# Altium schematic symbol library Microprocessors.SchLib: 19 symbols
Pins are listed as number, name and electrical type; pins without a type are passive.

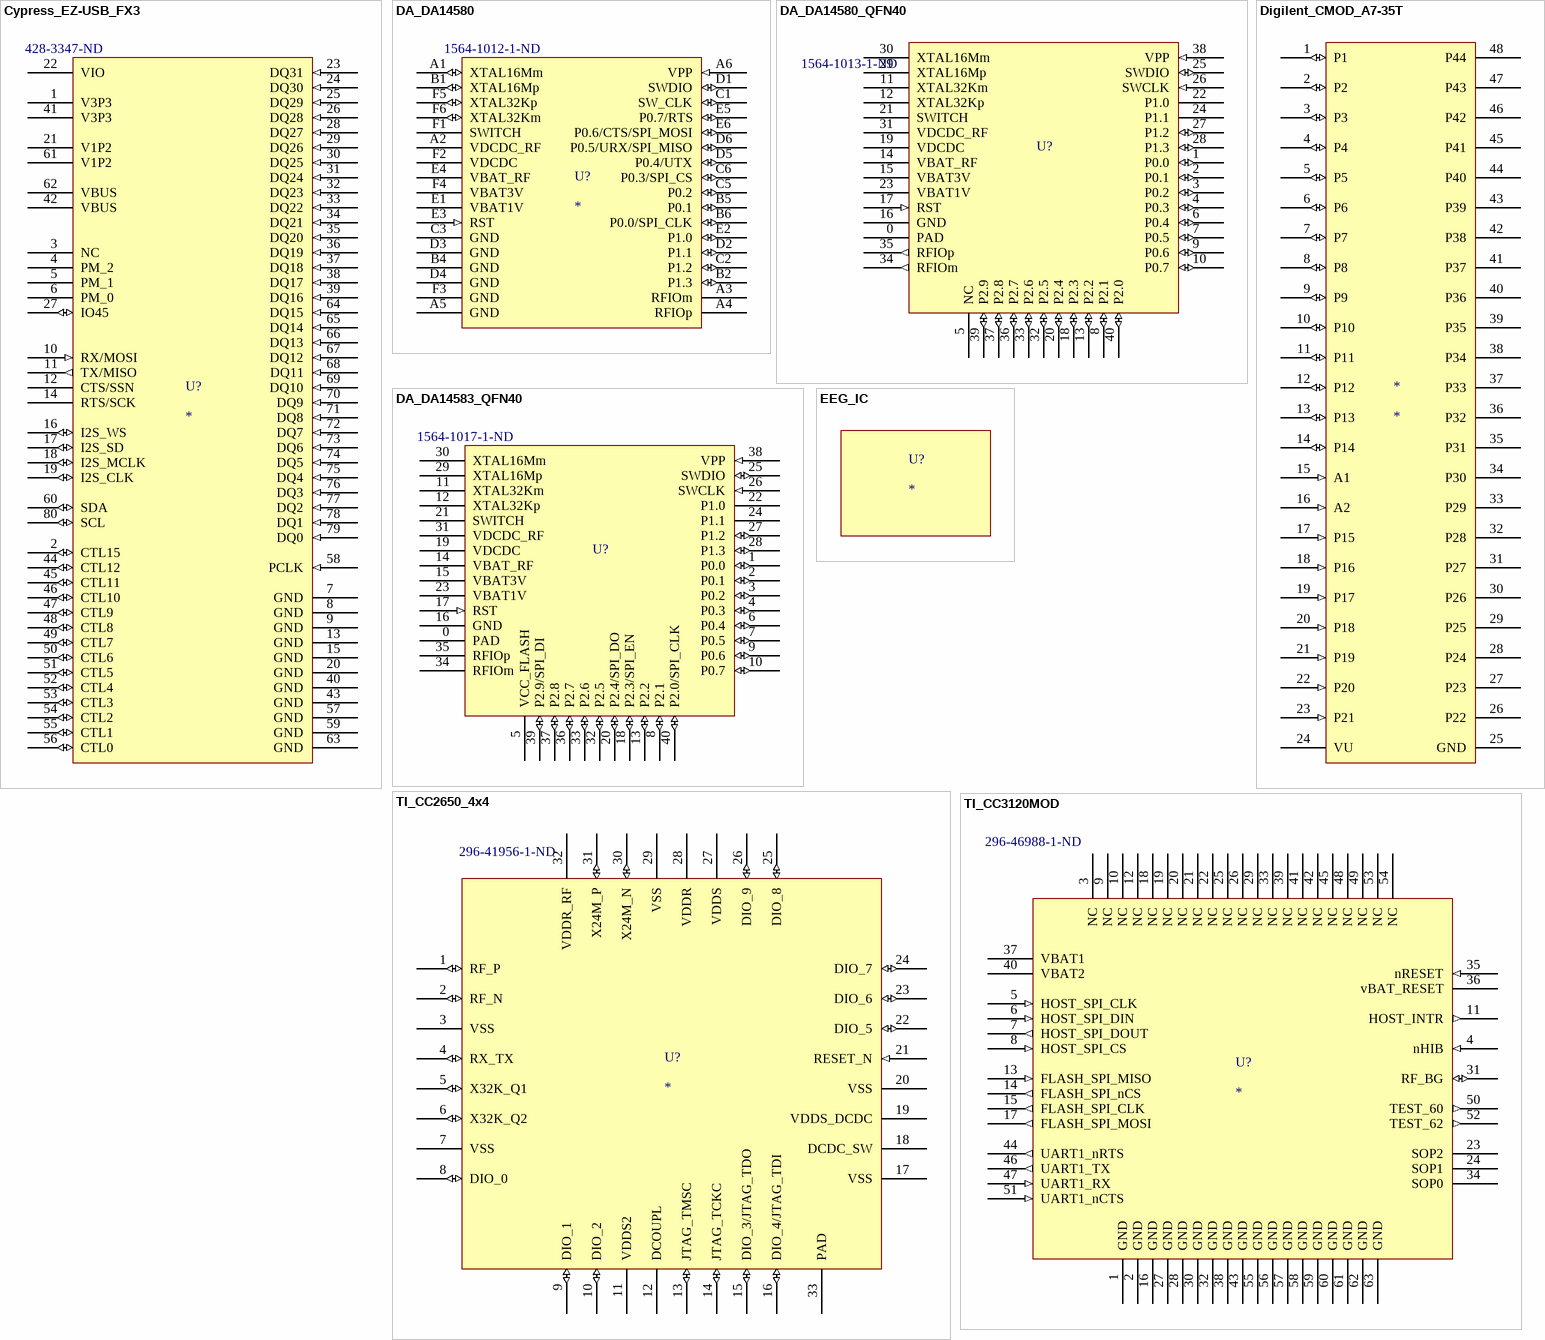
[diagram p0: symbols Cypress_EZ-USB_FX3 to TI_CC3120MOD]

## Cypress_EZ-USB_FX3
designator U?  Supplier Part Number 1: 428-3347-ND
USB3.0 Controller; Supplier 1: Digi-Key
footprint Cypress_EZ-USB_FX3
pins: 1 V3P3 (power), 2 CTL15 (io), 3 NC, 4 PM_2, 5 PM_1, 6 PM_0, 7 GND (power), 8 GND (power), 9 GND (power), 10 RX/MOSI (in), 11 TX/MISO (out), 12 CTS/SSN, 13 GND (power), 14 RTS/SCK, 15 GND (power), 16 I2S_WS (io), 17 I2S_SD (io), 18 I2S_MCLK (io), 19 I2S_CLK (io), 20 GND (power), 21 V1P2 (power), 22 VIO (power), 23 DQ31 (in), 24 DQ30 (in), 25 DQ29 (in), 26 DQ28 (in), 27 IO45 (io), 28 DQ27 (in), 29 DQ26 (in), 30 DQ25 (in), 31 DQ24 (in), 32 DQ23 (in), 33 DQ22 (in), 34 DQ21 (in), 35 DQ20 (in), 36 DQ19 (in), 37 DQ18 (in), 38 DQ17 (in), 39 DQ16 (in), 40 GND (power), 41 V3P3 (power), 42 VBUS (power), 43 GND (power), 44 CTL12 (io), 45 CTL11 (io), 46 CTL10 (io), 47 CTL9 (io), 48 CTL8 (io), 49 CTL7 (io), 50 CTL6 (io), 51 CTL5 (io), 52 CTL4 (io), 53 CTL3 (io), 54 CTL2 (io), 55 CTL1 (io), 56 CTL0 (io), 57 GND (power), 58 PCLK (in), 59 GND (power), 60 SDA (io), 61 V1P2 (power), 62 VBUS (power), 63 GND (power), 64 DQ15 (in), 65 DQ14 (in), 66 DQ13 (in), 67 DQ12 (in), 68 DQ11 (in), 69 DQ10 (in), 70 DQ9 (in), 71 DQ8 (in), 72 DQ7 (in), 73 DQ6 (in), 74 DQ5 (in), 75 DQ4 (in), 76 DQ3 (in), 77 DQ2 (in), 78 DQ1 (in), 79 DQ0 (in), 80 SCL (io)

## DA_DA14580
designator U?  Supplier Part Number 1: 1564-1012-1-ND
DA14580_BLE_WLCSP; Supplier 1: Digi-Key
footprint DA_DA14580_WLCSP34 (BGA, 34-Leads, Body 2.44x2.44mmx0.55mm, Pitch 0.40mm)
pins: A1 XTAL16Mm (io), A2 VDCDC_RF (power), A3 RFIOm, A4 RFIOp, A5 GND (power), A6 VPP (in), B1 XTAL16Mp (io), B2 P1.3 (io), B4 GND (power), B5 P0.1 (io), B6 P0.0/SPI_CLK (io), C1 SW_CLK (io), C2 P1.2 (io), C3 GND (power), C5 P0.2 (io), C6 P0.3/SPI_CS (io), D1 SWDIO (io), D2 P1.1 (io), D3 GND (power), D4 GND (power), D5 P0.4/UTX (io), D6 P0.5/URX/SPI_MISO (io), E1 VBAT1V (power), E2 P1.0 (io), E3 RST (in), E4 VBAT_RF (power), E5 P0.7/RTS (io), E6 P0.6/CTS/SPI_MOSI (io), F1 SWITCH (power), F2 VDCDC (power), F3 GND (power), F4 VBAT3V (power), F5 XTAL32Kp (io), F6 XTAL32Km (io)

## DA_DA14580_QFN40
designator U?  Supplier Part Number 1: 1564-1013-1-ND
DA14580_BLE_QFN40; Supplier 1: Digi-Key
footprint DA_DA14580_QFN40 (QFN, 40-Leads, Body 5.00x5.00mm, Pitch 0.40mm, Thermal Pad 3.65x3.65mm, IPC High Density)
pins: 0 PAD (power), 1 P0.0 (io), 2 P0.1 (io), 3 P0.2 (io), 4 P0.3 (io), 5 NC, 6 P0.4 (io), 7 P0.5 (io), 8 P2.1 (io), 9 P0.6 (io), 10 P0.7 (io), 11 XTAL32Km, 12 XTAL32Kp, 13 P2.2 (io), 14 VBAT_RF (power), 15 VBAT3V (power), 16 GND (power), 17 RST (in), 18 P2.3 (io), 19 VDCDC (power), 20 P2.4 (io), 21 SWITCH (power), 22 P1.0, 23 VBAT1V (power), 24 P1.1, 25 SWDIO (io), 26 SWCLK (in), 27 P1.2 (io), 28 P1.3 (io), 29 XTAL16Mp, 30 XTAL16Mm, 31 VDCDC_RF (power), 32 P2.5 (io), 33 P2.6 (io), 34 RFIOm (out), 35 RFIOp (out), 36 P2.7 (io), 37 P2.8 (io), 38 VPP (in), 39 P2.9 (io), 40 P2.0 (io)

## DA_DA14583_QFN40
designator U?  Supplier Part Number 1: 1564-1017-1-ND
DA14583_BLE_QFN40; Supplier 1: Digi-Key
footprint DA_DA14580_QFN40 (QFN, 40-Leads, Body 5.00x5.00mm, Pitch 0.40mm, Thermal Pad 3.65x3.65mm, IPC High Density)
pins: 0 PAD (power), 1 P0.0 (io), 2 P0.1 (io), 3 P0.2 (io), 4 P0.3 (io), 5 VCC_FLASH (power), 6 P0.4 (io), 7 P0.5 (io), 8 P2.1 (io), 9 P0.6 (io), 10 P0.7 (io), 11 XTAL32Km, 12 XTAL32Kp, 13 P2.2 (io), 14 VBAT_RF (power), 15 VBAT3V (power), 16 GND (power), 17 RST (in), 18 P2.3/SPI_EN (io), 19 VDCDC (power), 20 P2.4/SPI_DO (io), 21 SWITCH (power), 22 P1.0, 23 VBAT1V (power), 24 P1.1, 25 SWDIO (io), 26 SWCLK (in), 27 P1.2 (io), 28 P1.3 (io), 29 XTAL16Mp, 30 XTAL16Mm, 31 VDCDC_RF (power), 32 P2.5 (io), 33 P2.6 (io), 34 RFIOm, 35 RFIOp, 36 P2.7 (io), 37 P2.8 (io), 38 VPP (in), 39 P2.9/SPI_DI (io), 40 P2.0/SPI_CLK (io)

## Digilent_CMOD_A7-35T
designator *
Artix 35T FPGA DIP
pins: 1 P1 (io), 2 P2 (io), 3 P3 (io), 4 P4 (io), 5 P5 (io), 6 P6 (io), 7 P7 (io), 8 P8 (io), 9 P9 (io), 10 P10 (io), 11 P11 (io), 12 P12 (io), 13 P13 (io), 14 P14 (io), 15 A1 (in), 16 A2 (in), 17 P15 (in), 18 P16 (in), 19 P17 (in), 20 P18 (in), 21 P19 (in), 22 P20 (in), 23 P21 (in), 24 VU (power), 25 GND (power), 26 P22 (power), 27 P23 (power), 28 P24 (power), 29 P25 (power), 30 P26 (power), 31 P27 (power), 32 P28 (power), 33 P29 (power), 34 P30 (power), 35 P31 (power), 36 P32 (power), 37 P33 (power), 38 P34 (power), 39 P35 (power), 40 P36 (power), 41 P37 (power), 42 P38 (power), 43 P39 (power), 44 P40 (power), 45 P41 (power), 46 P42 (power), 47 P43 (power), 48 P44 (power)

## EEG_IC
designator U?
footprint EEG_AD_LFCSP-64 (QFN, 64-Leads, Body 9.00x9.00mm, Pitch 0.50mm, Thermal Pad 7.10x7.10mm, IPC High Density)

## TI_CC2650_4x4
designator U?  Supplier Part Number 1: 296-41956-1-ND
TI_CC2650_4x4; Supplier 1: Digi-Key
footprint TI_CC2650_PVQFN32 (QFN, 32-Leads, Body 4.00x4.00mm, Pitch 0.40mm, Thermal Pad 2.80x2.80mm, IPC High Density)
pins: 1 RF_P (io), 2 RF_N (io), 3 VSS (power), 4 RX_TX (io), 5 X32K_Q1 (io), 6 X32K_Q2 (io), 7 VSS (power), 8 DIO_0 (io), 9 DIO_1 (io), 10 DIO_2 (io), 11 VDDS2 (power), 12 DCOUPL (power), 13 JTAG_TMSC (io), 14 JTAG_TCKC (io), 15 DIO_3/JTAG_TDO (io), 16 DIO_4/JTAG_TDI (io), 17 VSS (power), 18 DCDC_SW (power), 19 VDDS_DCDC (power), 20 VSS (power), 21 RESET_N (in), 22 DIO_5 (io), 23 DIO_6 (io), 24 DIO_7 (io), 25 DIO_8 (io), 26 DIO_9 (io), 27 VDDS (power), 28 VDDR (power), 29 VSS (power), 30 X24M_N (io), 31 X24M_P (io), 32 VDDR_RF (power), 33 PAD (power)

## TI_CC3120MOD
designator U?  Supplier Part Number 1: 296-46988-1-ND
CC3120MOD WIFI; Supplier 1: Digi-Key
footprint TI_CC3120MOD (PQFN, 54-Leads, Body 17.50x20.50mm, Pitch 1.27mm, IPC Medium Density)
pins: 1 GND (power), 2 GND (power), 3 NC, 4 nHIB (in), 5 HOST_SPI_CLK (in), 6 HOST_SPI_DIN (in), 7 HOST_SPI_DOUT (out), 8 HOST_SPI_CS (in), 9 NC, 10 NC, 11 HOST_INTR (out), 12 NC, 13 FLASH_SPI_MISO (in), 14 FLASH_SPI_nCS (out), 15 FLASH_SPI_CLK (out), 16 GND (power), 17 FLASH_SPI_MOSI (out), 18 NC, 19 NC, 20 NC, 21 NC, 22 NC, 23 SOP2, 24 SOP1, 25 NC, 26 NC, 27 GND (power), 28 GND (power), 29 NC, 30 GND (power), 31 RF_BG (io), 32 GND (power), 33 NC, 34 SOP0, 35 nRESET (in), 36 vBAT_RESET, 37 VBAT1 (power), 38 GND (power), 39 NC, 40 VBAT2 (power), 41 NC, 42 NC, 43 GND (power), 44 UART1_nRTS (out), 45 NC, 46 UART1_TX (out), 47 UART1_RX (in), 48 NC, 49 NC, 50 TEST_60 (out), 51 UART1_nCTS (in), 52 TEST_62 (out), 53 NC, 54 NC, 55 GND (power), 56 GND (power), 57 GND (power), 58 GND (power), 59 GND (power), 60 GND (power), 61 GND (power), 62 GND (power), 63 GND (power)

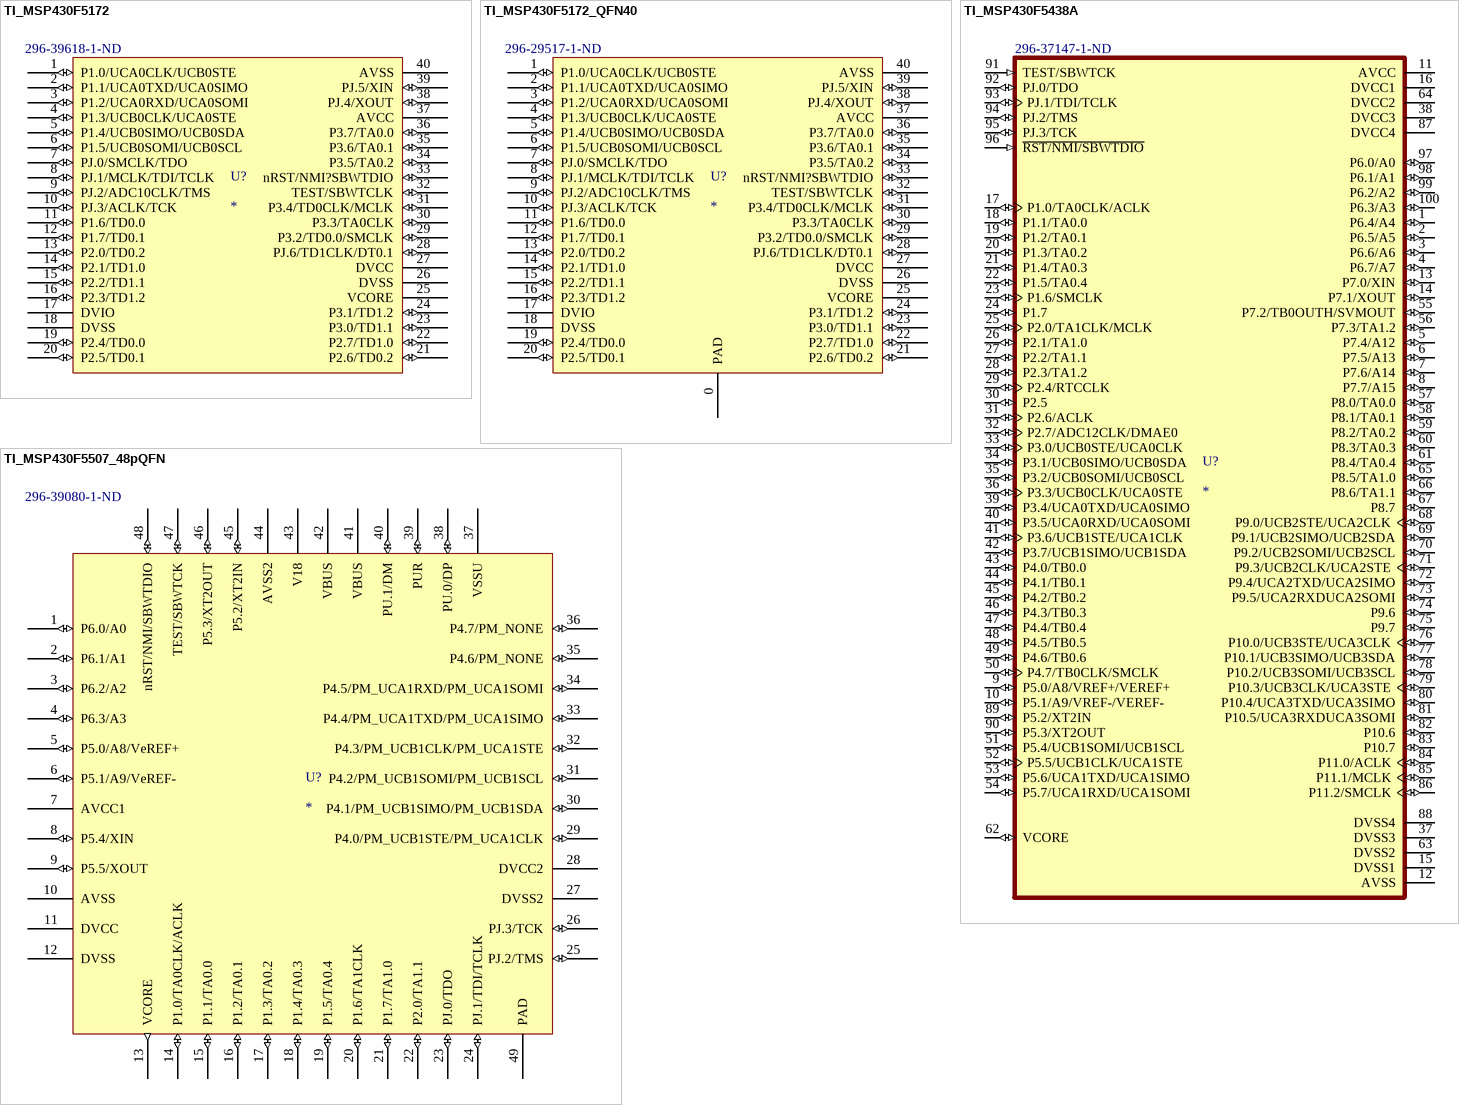
[diagram p1: symbols TI_MSP430F5172 to TI_MSP430F5507_48pQFN]

## TI_MSP430F5172
designator U?  Supplier Part Number 1: 296-39618-1-ND
TI_MSP430F5172_BGA; Supplier 1: Digi-Key
footprint TI_MSP430F5172_YFF40 (BGA, 42-Leads, Body 2.76x3.06mmx0.63mm, Pitch 0.40mm); pin to pad 1>B5 2>B6 3>c5 4>c6 5>d5 6>d6 7>e6 8>e5 9>f6 10>e4 11>g6 12>f5 13>f4 14>g5 15>g4 16>e3 17>g3 18>g2 19>f3 20>g1 21>f2 22>e2 23>f1 24>e1 25>d1 26>c1 27>b1 28>c2 29>b2 30>a1 31>a2 32>d2 33>b3 34>a3 35>a4 36>b4 37>c3 38>a5 39>a6 40>c4
pins: 1 P1.0/UCA0CLK/UCB0STE (io), 2 P1.1/UCA0TXD/UCA0SIMO (io), 3 P1.2/UCA0RXD/UCA0SOMI (io), 4 P1.3/UCB0CLK/UCA0STE (io), 5 P1.4/UCB0SIMO/UCB0SDA (io), 6 P1.5/UCB0SOMI/UCB0SCL (io), 7 PJ.0/SMCLK/TDO (io), 8 PJ.1/MCLK/TDI/TCLK (io), 9 PJ.2/ADC10CLK/TMS (io), 10 PJ.3/ACLK/TCK (io), 11 P1.6/TD0.0 (io), 12 P1.7/TD0.1 (io), 13 P2.0/TD0.2 (io), 14 P2.1/TD1.0 (io), 15 P2.2/TD1.1 (io), 16 P2.3/TD1.2 (io), 17 DVIO (power), 18 DVSS (power), 19 P2.4/TD0.0 (io), 20 P2.5/TD0.1 (io), 21 P2.6/TD0.2 (io), 22 P2.7/TD1.0 (io), 23 P3.0/TD1.1 (io), 24 P3.1/TD1.2 (io), 25 VCORE, 26 DVSS (power), 27 DVCC (power), 28 PJ.6/TD1CLK/DT0.1 (io), 29 P3.2/TD0.0/SMCLK (io), 30 P3.3/TA0CLK (io), 31 P3.4/TD0CLK/MCLK (io), 32 TEST/SBWTCLK (io), 33 nRST/NMI?SBWTDIO (io), 34 P3.5/TA0.2 (io), 35 P3.6/TA0.1 (io), 36 P3.7/TA0.0 (io), 37 AVCC (power), 38 PJ.4/XOUT (io), 39 PJ.5/XIN (io), 40 AVSS (power)

## TI_MSP430F5172_QFN40
designator U?  Supplier Part Number 1: 296-29517-1-ND
TI_MSP430F5172_QFN40; Supplier 1: Digi-Key
footprint TI_MSP430F5172_QFN40 (QFN, 40-Leads, Body 5.00x5.00mm, Pitch 0.40mm, Thermal Pad 3.65x3.65mm, IPC High Density)
footprint TI_MSP430F5172_QFN40 (QFN, 40-Leads, Body 5.00x5.00mm, Pitch 0.40mm, Thermal Pad 3.65x3.65mm, IPC High Density)
pins: 0 PAD (power), 1 P1.0/UCA0CLK/UCB0STE (io), 2 P1.1/UCA0TXD/UCA0SIMO (io), 3 P1.2/UCA0RXD/UCA0SOMI (io), 4 P1.3/UCB0CLK/UCA0STE (io), 5 P1.4/UCB0SIMO/UCB0SDA (io), 6 P1.5/UCB0SOMI/UCB0SCL (io), 7 PJ.0/SMCLK/TDO (io), 8 PJ.1/MCLK/TDI/TCLK (io), 9 PJ.2/ADC10CLK/TMS (io), 10 PJ.3/ACLK/TCK (io), 11 P1.6/TD0.0 (io), 12 P1.7/TD0.1 (io), 13 P2.0/TD0.2 (io), 14 P2.1/TD1.0 (io), 15 P2.2/TD1.1 (io), 16 P2.3/TD1.2 (io), 17 DVIO (power), 18 DVSS (power), 19 P2.4/TD0.0 (io), 20 P2.5/TD0.1 (io), 21 P2.6/TD0.2 (io), 22 P2.7/TD1.0 (io), 23 P3.0/TD1.1 (io), 24 P3.1/TD1.2 (io), 25 VCORE, 26 DVSS (power), 27 DVCC (power), 28 PJ.6/TD1CLK/DT0.1 (io), 29 P3.2/TD0.0/SMCLK (io), 30 P3.3/TA0CLK (io), 31 P3.4/TD0CLK/MCLK (io), 32 TEST/SBWTCLK (io), 33 nRST/NMI?SBWTDIO (io), 34 P3.5/TA0.2 (io), 35 P3.6/TA0.1 (io), 36 P3.7/TA0.0 (io), 37 AVCC (power), 38 PJ.4/XOUT (io), 39 PJ.5/XIN (io), 40 AVSS (power)

## TI_MSP430F5438A
designator U?  Supplier Part Number 1: 296-37147-1-ND
MSP430F5438_LQFP100; MF: Texas Instruments; MP: MSP430F5438AIPZR; DigiKey-Purchase-URL: https://snapeda.com/shop?store=DigiKey&id=49186; Package: LQFP-100 Texas Instruments; Digi-Key_Part_Number: 296-37147-1-ND; Arrow_Electronics-Purchase-URL: https://snapeda.com/shop?store=Arrow+Electronics&id=49186; Texas_Instruments-Purchase-URL: https://snapeda.com/shop?store=Texas+Instruments&id=49186; Mouser-Purchase-URL: https://snapeda.com/shop?store=Mouser&id=49186; SnapEDA_Link: https://www.snapeda.com/parts/MSP430F5438AIPZR/Texas%20Instruments/view-part/49186/?ref=snap; Value: *; Supplier 1: Digi-Key
footprint TI_MSP430F5438_LQFP100 (TSQFP, 100-Leads, Body 14.00x14.00mm, Pitch 0.50mm, IPC High Density)
pins: 1 P6.4/A4 (io), 2 P6.5/A5 (io), 3 P6.6/A6 (io), 4 P6.7/A7 (io), 5 P7.4/A12 (io), 6 P7.5/A13 (io), 7 P7.6/A14 (io), 8 P7.7/A15 (io), 9 P5.0/A8/VREF+/VEREF+ (io), 10 P5.1/A9/VREF-/VEREF- (io), 11 AVCC (power), 12 AVSS (power), 13 P7.0/XIN (io), 14 P7.1/XOUT (io), 15 DVSS1 (power), 16 DVCC1 (power), 17 P1.0/TA0CLK/ACLK (io), 18 P1.1/TA0.0 (io), 19 P1.2/TA0.1 (io), 20 P1.3/TA0.2 (io), 21 P1.4/TA0.3 (io), 22 P1.5/TA0.4 (io), 23 P1.6/SMCLK (io), 24 P1.7 (io), 25 P2.0/TA1CLK/MCLK (io), 26 P2.1/TA1.0 (io), 27 P2.2/TA1.1 (io), 28 P2.3/TA1.2 (io), 29 P2.4/RTCCLK (io), 30 P2.5 (io), 31 P2.6/ACLK (io), 32 P2.7/ADC12CLK/DMAE0 (io), 33 P3.0/UCB0STE/UCA0CLK (io), 34 P3.1/UCB0SIMO/UCB0SDA (io), 35 P3.2/UCB0SOMI/UCB0SCL (io), 36 P3.3/UCB0CLK/UCA0STE (io), 37 DVSS3 (power), 38 DVCC3 (power), 39 P3.4/UCA0TXD/UCA0SIMO (io), 40 P3.5/UCA0RXD/UCA0SOMI (io), 41 P3.6/UCB1STE/UCA1CLK (io), 42 P3.7/UCB1SIMO/UCB1SDA (io), 43 P4.0/TB0.0 (io), 44 P4.1/TB0.1 (io), 45 P4.2/TB0.2 (io), 46 P4.3/TB0.3 (io), 47 P4.4/TB0.4 (io), 48 P4.5/TB0.5 (io), 49 P4.6/TB0.6 (io), 50 P4.7/TB0CLK/SMCLK (io), 51 P5.4/UCB1SOMI/UCB1SCL (io), 52 P5.5/UCB1CLK/UCA1STE (io), 53 P5.6/UCA1TXD/UCA1SIMO (io), 54 P5.7/UCA1RXD/UCA1SOMI (io), 55 P7.2/TB0OUTH/SVMOUT (io), 56 P7.3/TA1.2 (io), 57 P8.0/TA0.0 (io), 58 P8.1/TA0.1 (io), 59 P8.2/TA0.2 (io), 60 P8.3/TA0.3 (io), 61 P8.4/TA0.4 (io), 62 VCORE (io), 63 DVSS2 (power), 64 DVCC2 (power), 65 P8.5/TA1.0 (io), 66 P8.6/TA1.1 (io), 67 P8.7 (io), 68 P9.0/UCB2STE/UCA2CLK (io), 69 P9.1/UCB2SIMO/UCB2SDA (io), 70 P9.2/UCB2SOMI/UCB2SCL (io), 71 P9.3/UCB2CLK/UCA2STE (io), 72 P9.4/UCA2TXD/UCA2SIMO (io), 73 P9.5/UCA2RXDUCA2SOMI (io), 74 P9.6 (io), 75 P9.7 (io), 76 P10.0/UCB3STE/UCA3CLK (io), 77 P10.1/UCB3SIMO/UCB3SDA (io), 78 P10.2/UCB3SOMI/UCB3SCL (io), 79 P10.3/UCB3CLK/UCA3STE (io), 80 P10.4/UCA3TXD/UCA3SIMO (io), 81 P10.5/UCA3RXDUCA3SOMI (io), 82 P10.6 (io), 83 P10.7 (io), 84 P11.0/ACLK (io), 85 P11.1/MCLK (io), 86 P11.2/SMCLK (io), 87 DVCC4 (power), 88 DVSS4 (power), 89 P5.2/XT2IN (io), 90 P5.3/XT2OUT (io), 91 TEST/SBWTCK (in), 92 PJ.0/TDO (io), 93 PJ.1/TDI/TCLK (io), 94 PJ.2/TMS (io), 95 PJ.3/TCK (io), 96 ~{RST/NMI/SBWTDIO} (in), 97 P6.0/A0 (io), 98 P6.1/A1 (io), 99 P6.2/A2 (io), 100 P6.3/A3 (io)

## TI_MSP430F5507_48pQFN
designator U?  Supplier Part Number 1: 296-39080-1-ND
TI_MSP430F5507_QFN; Supplier 1: Digi-Key
footprint TI_MSP430F5507_QFN48 (QFN, 48-Leads, Body 7.00x7.00mm, Pitch 0.50mm, Thermal Pad 5.15x5.15mm, IPC High Density)
pins: 1 P6.0/A0 (io), 2 P6.1/A1 (io), 3 P6.2/A2 (io), 4 P6.3/A3 (io), 5 P5.0/A8/VeREF+ (io), 6 P5.1/A9/VeREF- (io), 7 AVCC1 (power), 8 P5.4/XIN (io), 9 P5.5/XOUT (io), 10 AVSS (power), 11 DVCC (power), 12 DVSS (power), 13 VCORE (out), 14 P1.0/TA0CLK/ACLK (io), 15 P1.1/TA0.0 (io), 16 P1.2/TA0.1 (io), 17 P1.3/TA0.2 (io), 18 P1.4/TA0.3 (io), 19 P1.5/TA0.4 (io), 20 P1.6/TA1CLK (io), 21 P1.7/TA1.0 (io), 22 P2.0/TA1.1 (io), 23 PJ.0/TDO (io), 24 PJ.1/TDI/TCLK (io), 25 PJ.2/TMS (io), 26 PJ.3/TCK (io), 27 DVSS2 (power), 28 DVCC2 (power), 29 P4.0/PM_UCB1STE/PM_UCA1CLK (io), 30 P4.1/PM_UCB1SIMO/PM_UCB1SDA (io), 31 P4.2/PM_UCB1SOMI/PM_UCB1SCL (io), 32 P4.3/PM_UCB1CLK/PM_UCA1STE (io), 33 P4.4/PM_UCA1TXD/PM_UCA1SIMO (io), 34 P4.5/PM_UCA1RXD/PM_UCA1SOMI (io), 35 P4.6/PM_NONE (io), 36 P4.7/PM_NONE (io), 37 VSSU (power), 38 PU.0/DP (io), 39 PUR (io), 40 PU.1/DM (io), 41 VBUS (power), 42 VBUS (power), 43 V18 (power), 44 AVSS2 (power), 45 P5.2/XT2IN (io), 46 P5.3/XT2OUT (io), 47 TEST/SBWTCK (io), 48 nRST/NMI/SBWTDIO (io), 49 PAD (power)

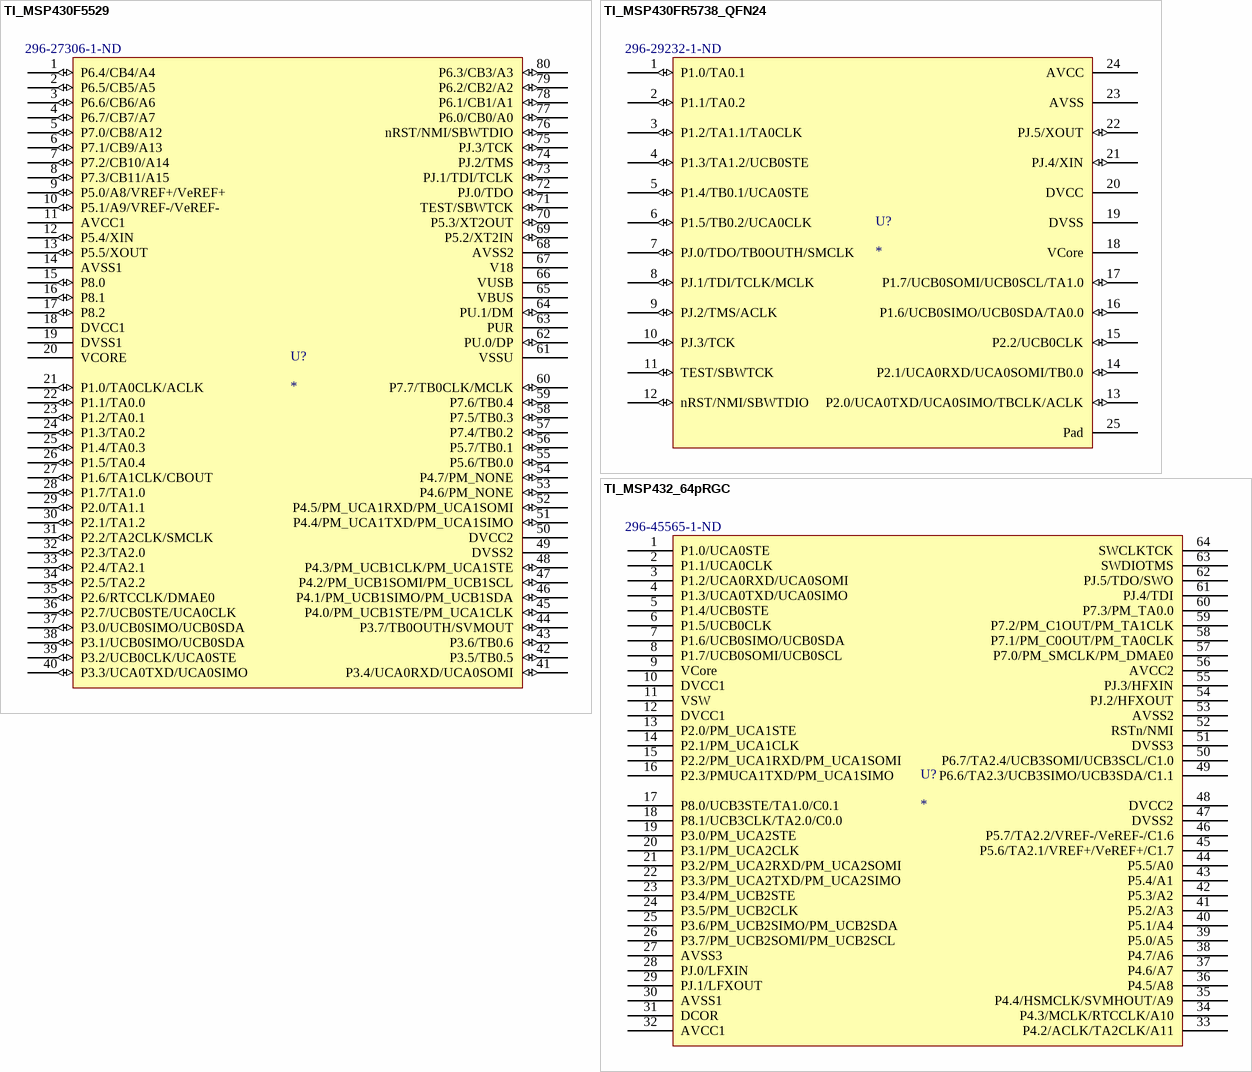
[diagram p2: symbols TI_MSP430F5529 to TI_MSP432_64pRGC]

## TI_MSP430F5529
designator U?  Supplier Part Number 1: 296-27306-1-ND
TI_MSP430F5529_PQFP80; Supplier 1: Digi-Key
footprint TI_MSP430F5529_LQFP-80 (TSQFP, 80-Leads, Body 12.00x12.00mm, Pitch 0.50mm, IPC High Density)
pins: 1 P6.4/CB4/A4 (io), 2 P6.5/CB5/A5 (io), 3 P6.6/CB6/A6 (io), 4 P6.7/CB7/A7 (io), 5 P7.0/CB8/A12 (io), 6 P7.1/CB9/A13 (io), 7 P7.2/CB10/A14 (io), 8 P7.3/CB11/A15 (io), 9 P5.0/A8/VREF+/VeREF+ (io), 10 P5.1/A9/VREF-/VeREF- (io), 11 AVCC1 (power), 12 P5.4/XIN (io), 13 P5.5/XOUT (io), 14 AVSS1 (power), 15 P8.0 (io), 16 P8.1 (io), 17 P8.2 (io), 18 DVCC1 (power), 19 DVSS1 (power), 20 VCORE, 21 P1.0/TA0CLK/ACLK (io), 22 P1.1/TA0.0 (io), 23 P1.2/TA0.1 (io), 24 P1.3/TA0.2 (io), 25 P1.4/TA0.3 (io), 26 P1.5/TA0.4 (io), 27 P1.6/TA1CLK/CBOUT (io), 28 P1.7/TA1.0 (io), 29 P2.0/TA1.1 (io), 30 P2.1/TA1.2 (io), 31 P2.2/TA2CLK/SMCLK (io), 32 P2.3/TA2.0 (io), 33 P2.4/TA2.1 (io), 34 P2.5/TA2.2 (io), 35 P2.6/RTCCLK/DMAE0 (io), 36 P2.7/UCB0STE/UCA0CLK (io), 37 P3.0/UCB0SIMO/UCB0SDA (io), 38 P3.1/UCB0SIMO/UCB0SDA (io), 39 P3.2/UCB0CLK/UCA0STE (io), 40 P3.3/UCA0TXD/UCA0SIMO (io), 41 P3.4/UCA0RXD/UCA0SOMI (io), 42 P3.5/TB0.5 (io), 43 P3.6/TB0.6 (io), 44 P3.7/TB0OUTH/SVMOUT (io), 45 P4.0/PM_UCB1STE/PM_UCA1CLK (io), 46 P4.1/PM_UCB1SIMO/PM_UCB1SDA (io), 47 P4.2/PM_UCB1SOMI/PM_UCB1SCL (io), 48 P4.3/PM_UCB1CLK/PM_UCA1STE (io), 49 DVSS2 (power), 50 DVCC2 (power), 51 P4.4/PM_UCA1TXD/PM_UCA1SIMO (io), 52 P4.5/PM_UCA1RXD/PM_UCA1SOMI (io), 53 P4.6/PM_NONE (io), 54 P4.7/PM_NONE (io), 55 P5.6/TB0.0 (io), 56 P5.7/TB0.1 (io), 57 P7.4/TB0.2 (io), 58 P7.5/TB0.3 (io), 59 P7.6/TB0.4 (io), 60 P7.7/TB0CLK/MCLK (io), 61 VSSU (power), 62 PU.0/DP (io), 63 PUR, 64 PU.1/DM (io), 65 VBUS, 66 VUSB (power), 67 V18, 68 AVSS2 (power), 69 P5.2/XT2IN (io), 70 P5.3/XT2OUT (io), 71 TEST/SBWTCK (io), 72 PJ.0/TDO (io), 73 PJ.1/TDI/TCLK (io), 74 PJ.2/TMS (io), 75 PJ.3/TCK (io), 76 nRST/NMI/SBWTDIO (io), 77 P6.0/CB0/A0 (io), 78 P6.1/CB1/A1 (io), 79 P6.2/CB2/A2 (io), 80 P6.3/CB3/A3 (io)

## TI_MSP430FR5738_QFN24
designator U?  Supplier Part Number 1: 296-29232-1-ND
MSP430FR5738; Supplier 1: Digi-Key
footprint TI_MSP430FR5738_QFN24 (QFN, 24-Leads, Body 4.00x4.00mm, Pitch 0.50mm, Thermal Pad 2.10x2.10mm, IPC High Density)
pins: 1 P1.0/TA0.1 (io), 2 P1.1/TA0.2 (io), 3 P1.2/TA1.1/TA0CLK (io), 4 P1.3/TA1.2/UCB0STE (io), 5 P1.4/TB0.1/UCA0STE (io), 6 P1.5/TB0.2/UCA0CLK (io), 7 PJ.0/TDO/TB0OUTH/SMCLK (io), 8 PJ.1/TDI/TCLK/MCLK (io), 9 PJ.2/TMS/ACLK (io), 10 PJ.3/TCK (io), 11 TEST/SBWTCK (io), 12 nRST/NMI/SBWTDIO (io), 13 P2.0/UCA0TXD/UCA0SIMO/TBCLK/ACLK (io), 14 P2.1/UCA0RXD/UCA0SOMI/TB0.0 (io), 15 P2.2/UCB0CLK (io), 16 P1.6/UCB0SIMO/UCB0SDA/TA0.0 (io), 17 P1.7/UCB0SOMI/UCB0SCL/TA1.0 (io), 18 VCore, 19 DVSS (power), 20 DVCC (power), 21 PJ.4/XIN (io), 22 PJ.5/XOUT (io), 23 AVSS (power), 24 AVCC (power), 25 Pad (power)

## TI_MSP432_64pRGC
designator U?  Supplier Part Number 1: 296-45565-1-ND
MSP432_64pRGC_QFN; Supplier 1: Digi-Key
footprint TI_MSP432_RGC64_QFN (QFN, 64-Leads, Body 9.00x9.00mm, Pitch 0.50mm, Thermal Pad 4.25x4.25mm, IPC Medium Density)
pins: 1 P1.0/UCA0STE, 2 P1.1/UCA0CLK, 3 P1.2/UCA0RXD/UCA0SOMI, 4 P1.3/UCA0TXD/UCA0SIMO, 5 P1.4/UCB0STE, 6 P1.5/UCB0CLK, 7 P1.6/UCB0SIMO/UCB0SDA, 8 P1.7/UCB0SOMI/UCB0SCL, 9 VCore, 10 DVCC1 (power), 11 VSW (power), 12 DVCC1 (power), 13 P2.0/PM_UCA1STE, 14 P2.1/PM_UCA1CLK, 15 P2.2/PM_UCA1RXD/PM_UCA1SOMI, 16 P2.3/PMUCA1TXD/PM_UCA1SIMO, 17 P8.0/UCB3STE/TA1.0/C0.1, 18 P8.1/UCB3CLK/TA2.0/C0.0, 19 P3.0/PM_UCA2STE, 20 P3.1/PM_UCA2CLK, 21 P3.2/PM_UCA2RXD/PM_UCA2SOMI, 22 P3.3/PM_UCA2TXD/PM_UCA2SIMO, 23 P3.4/PM_UCB2STE, 24 P3.5/PM_UCB2CLK, 25 P3.6/PM_UCB2SIMO/PM_UCB2SDA, 26 P3.7/PM_UCB2SOMI/PM_UCB2SCL, 27 AVSS3 (power), 28 PJ.0/LFXIN, 29 PJ.1/LFXOUT, 30 AVSS1 (power), 31 DCOR, 32 AVCC1 (power), 33 P4.2/ACLK/TA2CLK/A11, 34 P4.3/MCLK/RTCCLK/A10, 35 P4.4/HSMCLK/SVMHOUT/A9, 36 P4.5/A8, 37 P4.6/A7, 38 P4.7/A6, 39 P5.0/A5, 40 P5.1/A4, 41 P5.2/A3, 42 P5.3/A2, 43 P5.4/A1, 44 P5.5/A0, 45 P5.6/TA2.1/VREF+/VeREF+/C1.7, 46 P5.7/TA2.2/VREF-/VeREF-/C1.6, 47 DVSS2 (power), 48 DVCC2 (power), 49 P6.6/TA2.3/UCB3SIMO/UCB3SDA/C1.1, 50 P6.7/TA2.4/UCB3SOMI/UCB3SCL/C1.0, 51 DVSS3 (power), 52 RSTn/NMI, 53 AVSS2 (power), 54 PJ.2/HFXOUT, 55 PJ.3/HFXIN, 56 AVCC2 (power), 57 P7.0/PM_SMCLK/PM_DMAE0, 58 P7.1/PM_C0OUT/PM_TA0CLK, 59 P7.2/PM_C1OUT/PM_TA1CLK, 60 P7.3/PM_TA0.0, 61 PJ.4/TDI, 62 PJ.5/TDO/SWO, 63 SWDIOTMS, 64 SWCLKTCK

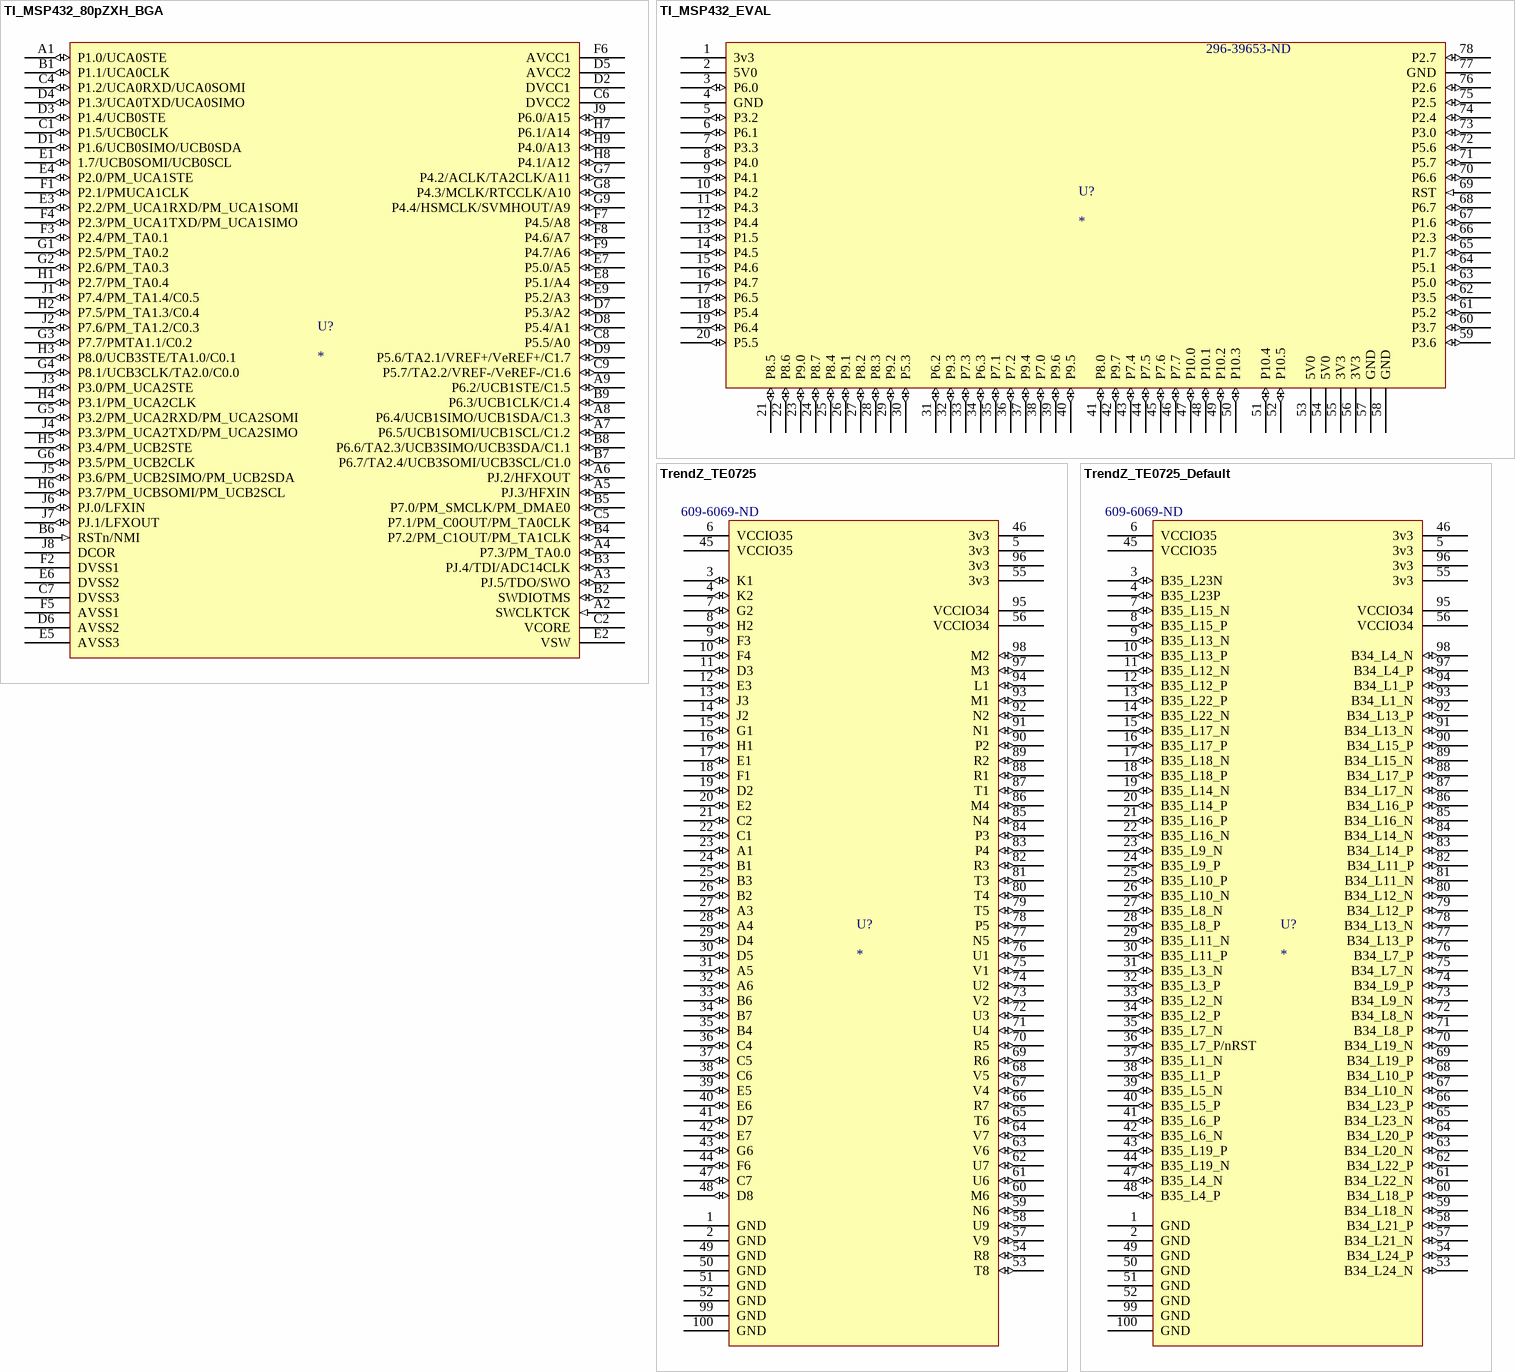
[diagram p3: symbols TI_MSP432_80pZXH_BGA to TrendZ_TE0725_Default]

## TI_MSP432_80pZXH_BGA
designator U?
TI_MSP432_80pZXH_BGA
footprint TI_MSP432_ZXH80_NFBGA (BGA, 80-Leads, Body 5.00x5.00mmx1.00mm, Pitch 0.50mm)
pins: A1 P1.0/UCA0STE (io), A2 SWCLKTCK (in), A3 PJ.5/TDO/SWO (io), A4 P7.3/PM_TA0.0 (io), A5 PJ.3/HFXIN (io), A6 PJ.2/HFXOUT (io), A7 P6.5/UCB1SOMI/UCB1SCL/C1.2 (io), A8 P6.4/UCB1SIMO/UCB1SDA/C1.3 (io), A9 P6.2/UCB1STE/C1.5 (io), B1 P1.1/UCA0CLK (io), B2 SWDIOTMS (io), B3 PJ.4/TDI/ADC14CLK (io), B4 P7.2/PM_C1OUT/PM_TA1CLK (io), B5 P7.0/PM_SMCLK/PM_DMAE0 (io), B6 RSTn/NMI (in), B7 P6.7/TA2.4/UCB3SOMI/UCB3SCL/C1.0 (io), B8 P6.6/TA2.3/UCB3SIMO/UCB3SDA/C1.1 (io), B9 P6.3/UCB1CLK/C1.4 (io), C1 P1.5/UCB0CLK (io), C2 VCORE, C4 P1.2/UCA0RXD/UCA0SOMI (io), C5 P7.1/PM_C0OUT/PM_TA0CLK (io), C6 DVCC2 (power), C7 DVSS3 (power), C8 P5.5/A0 (io), C9 P5.7/TA2.2/VREF-/VeREF-/C1.6 (io), D1 P1.6/UCB0SIMO/UCB0SDA (io), D2 DVCC1 (power), D3 P1.4/UCB0STE (io), D4 P1.3/UCA0TXD/UCA0SIMO (io), D5 AVCC2 (power), D6 AVSS2 (power), D7 P5.3/A2 (io), D8 P5.4/A1 (io), D9 P5.6/TA2.1/VREF+/VeREF+/C1.7 (io), E1 1.7/UCB0SOMI/UCB0SCL (io), E2 VSW (power), E3 P2.2/PM_UCA1RXD/PM_UCA1SOMI (io), E4 P2.0/PM_UCA1STE (io), E5 AVSS3 (power), E6 DVSS2 (power), E7 P5.0/A5 (io), E8 P5.1/A4 (io), E9 P5.2/A3 (io), F1 P2.1/PMUCA1CLK (io), F2 DVSS1 (power), F3 P2.4/PM_TA0.1 (io), F4 P2.3/PM_UCA1TXD/PM_UCA1SIMO (io), F5 AVSS1 (power), F6 AVCC1 (power), F7 P4.5/A8 (io), F8 P4.6/A7 (io), F9 P4.7/A6 (io), G1 P2.5/PM_TA0.2 (io), G2 P2.6/PM_TA0.3 (io), G3 P7.7/PMTA1.1/C0.2 (io), G4 P8.1/UCB3CLK/TA2.0/C0.0 (io), G5 P3.2/PM_UCA2RXD/PM_UCA2SOMI (io), G6 P3.5/PM_UCB2CLK (io), G7 P4.2/ACLK/TA2CLK/A11 (io), G8 P4.3/MCLK/RTCCLK/A10 (io), G9 P4.4/HSMCLK/SVMHOUT/A9 (io), H1 P2.7/PM_TA0.4 (io), H2 P7.5/PM_TA1.3/C0.4 (io), H3 P8.0/UCB3STE/TA1.0/C0.1 (io), H4 P3.1/PM_UCA2CLK (io), H5 P3.4/PM_UCB2STE (io), H6 P3.7/PM_UCBSOMI/PM_UCB2SCL (io), H7 P6.1/A14 (io), H8 P4.1/A12 (io), H9 P4.0/A13 (io), J1 P7.4/PM_TA1.4/C0.5 (io), J2 P7.6/PM_TA1.2/C0.3 (io), J3 P3.0/PM_UCA2STE (io), J4 P3.3/PM_UCA2TXD/PM_UCA2SIMO (io), J5 P3.6/PM_UCB2SIMO/PM_UCB2SDA (io), J6 PJ.0/LFXIN (io), J7 PJ.1/LFXOUT (io), J8 DCOR, J9 P6.0/A15 (io)

## TI_MSP432_EVAL
designator U?  Supplier Part Number 1: 296-39653-ND
Supplier 1: Digikey
footprint TI_MSP432_EVAL
pins: 1 3v3 (power), 2 5V0 (power), 3 P6.0 (io), 4 GND (power), 5 P3.2 (io), 6 P6.1 (io), 7 P3.3 (io), 8 P4.0 (io), 9 P4.1 (io), 10 P4.2 (io), 11 P4.3 (io), 12 P4.4 (io), 13 P1.5 (io), 14 P4.5 (io), 15 P4.6 (io), 16 P4.7 (io), 17 P6.5 (io), 18 P5.4 (io), 19 P6.4 (io), 20 P5.5 (io), 21 P8.5 (io), 22 P8.6 (io), 23 P9.0 (io), 24 P8.7 (io), 25 P8.4 (io), 26 P9.1 (io), 27 P8.2 (io), 28 P8.3 (io), 29 P9.2 (io), 30 P5.3 (io), 31 P6.2 (io), 32 P9.3 (io), 33 P7.3 (io), 34 P6.3 (io), 35 P7.1 (io), 36 P7.2 (io), 37 P9.4 (io), 38 P7.0 (io), 39 P9.6 (io), 40 P9.5 (io), 41 P8.0 (io), 42 P9.7 (io), 43 P7.4 (io), 44 P7.5 (io), 45 P7.6 (io), 46 P7.7 (io), 47 P10.0 (io), 48 P10.1 (io), 49 P10.2 (io), 50 P10.3 (io), 51 P10.4 (io), 52 P10.5 (io), 53 5V0 (power), 54 5V0 (power), 55 3V3 (power), 56 3V3 (power), 57 GND (power), 58 GND (power), 59 P3.6 (io), 60 P3.7 (io), 61 P5.2 (io), 62 P3.5 (io), 63 P5.0 (io), 64 P5.1 (io), 65 P1.7 (io), 66 P2.3 (io), 67 P1.6 (io), 68 P6.7 (io), 69 RST (in), 70 P6.6 (io), 71 P5.7 (io), 72 P5.6 (io), 73 P3.0 (io), 74 P2.4 (io), 75 P2.5 (io), 76 P2.6 (io), 77 GND (power), 78 P2.7 (io)

## TrendZ_TE0725
designator U?  Supplier Part Number 1: 609-6069-ND
FPGA ARTIX7-100T Module; Supplier 1: Digi-Key
footprint TrendZ_TE0725
pins: 1 GND (power), 2 GND (power), 3 K1 (io), 4 K2 (io), 5 3v3 (power), 6 VCCIO35 (power), 7 G2 (io), 8 H2 (io), 9 F3 (io), 10 F4 (io), 11 D3 (io), 12 E3 (io), 13 J3 (io), 14 J2 (io), 15 G1 (io), 16 H1 (io), 17 E1 (io), 18 F1 (io), 19 D2 (io), 20 E2 (io), 21 C2 (io), 22 C1 (io), 23 A1 (io), 24 B1 (io), 25 B3 (io), 26 B2 (io), 27 A3 (io), 28 A4 (io), 29 D4 (io), 30 D5 (io), 31 A5 (io), 32 A6 (io), 33 B6 (io), 34 B7 (io), 35 B4 (io), 36 C4 (io), 37 C5 (io), 38 C6 (io), 39 E5 (io), 40 E6 (io), 41 D7 (io), 42 E7 (io), 43 G6 (io), 44 F6 (io), 45 VCCIO35 (power), 46 3v3 (power), 47 C7 (io), 48 D8 (io), 49 GND (power), 50 GND (power), 51 GND (power), 52 GND (power), 53 T8 (io), 54 R8 (io), 55 3v3 (power), 56 VCCIO34 (power), 57 V9 (io), 58 U9 (io), 59 N6 (io), 60 M6 (io), 61 U6 (io), 62 U7 (io), 63 V6 (io), 64 V7 (io), 65 T6 (io), 66 R7 (io), 67 V4 (io), 68 V5 (io), 69 R6 (io), 70 R5 (io), 71 U4 (io), 72 U3 (io), 73 V2 (io), 74 U2 (io), 75 V1 (io), 76 U1 (io), 77 N5 (io), 78 P5 (io), 79 T5 (io), 80 T4 (io), 81 T3 (io), 82 R3 (io), 83 P4 (io), 84 P3 (io), 85 N4 (io), 86 M4 (io), 87 T1 (io), 88 R1 (io), 89 R2 (io), 90 P2 (io), 91 N1 (io), 92 N2 (io), 93 M1 (io), 94 L1 (io), 95 VCCIO34 (power), 96 3v3 (power), 97 M3 (io), 98 M2 (io), 99 GND (power), 100 GND (power)

## TrendZ_TE0725_Default
designator U?  Supplier Part Number 1: 609-6069-ND
FPGA ARTIX7-100T Module; Supplier 1: Digi-Key
footprint TrendZ_TE0725
pins: 1 GND (power), 2 GND (power), 3 B35_L23N (io), 4 B35_L23P (io), 5 3v3 (power), 6 VCCIO35 (power), 7 B35_L15_N (io), 8 B35_L15_P (io), 9 B35_L13_N (io), 10 B35_L13_P (io), 11 B35_L12_N (io), 12 B35_L12_P (io), 13 B35_L22_P (io), 14 B35_L22_N (io), 15 B35_L17_N (io), 16 B35_L17_P (io), 17 B35_L18_N (io), 18 B35_L18_P (io), 19 B35_L14_N (io), 20 B35_L14_P (io), 21 B35_L16_P (io), 22 B35_L16_N (io), 23 B35_L9_N (io), 24 B35_L9_P (io), 25 B35_L10_P (io), 26 B35_L10_N (io), 27 B35_L8_N (io), 28 B35_L8_P (io), 29 B35_L11_N (io), 30 B35_L11_P (io), 31 B35_L3_N (io), 32 B35_L3_P (io), 33 B35_L2_N (io), 34 B35_L2_P (io), 35 B35_L7_N (io), 36 B35_L7_P/nRST (io), 37 B35_L1_N (io), 38 B35_L1_P (io), 39 B35_L5_N (io), 40 B35_L5_P (io), 41 B35_L6_P (io), 42 B35_L6_N (io), 43 B35_L19_P (io), 44 B35_L19_N (io), 45 VCCIO35 (power), 46 3v3 (power), 47 B35_L4_N (io), 48 B35_L4_P (io), 49 GND (power), 50 GND (power), 51 GND (power), 52 GND (power), 53 B34_L24_N (io), 54 B34_L24_P (io), 55 3v3 (power), 56 VCCIO34 (power), 57 B34_L21_N (io), 58 B34_L21_P (io), 59 B34_L18_N (io), 60 B34_L18_P (io), 61 B34_L22_N (io), 62 B34_L22_P (io), 63 B34_L20_N (io), 64 B34_L20_P (io), 65 B34_L23_N (io), 66 B34_L23_P (io), 67 B34_L10_N (io), 68 B34_L10_P (io), 69 B34_L19_P (io), 70 B34_L19_N (io), 71 B34_L8_P (io), 72 B34_L8_N (io), 73 B34_L9_N (io), 74 B34_L9_P (io), 75 B34_L7_N (io), 76 B34_L7_P (io), 77 B34_L13_P (io), 78 B34_L13_N (io), 79 B34_L12_P (io), 80 B34_L12_N (io), 81 B34_L11_N (io), 82 B34_L11_P (io), 83 B34_L14_P (io), 84 B34_L14_N (io), 85 B34_L16_N (io), 86 B34_L16_P (io), 87 B34_L17_N (io), 88 B34_L17_P (io), 89 B34_L15_N (io), 90 B34_L15_P (io), 91 B34_L13_N (io), 92 B34_L13_P (io), 93 B34_L1_N (io), 94 B34_L1_P (io), 95 VCCIO34 (power), 96 3v3 (power), 97 B34_L4_P (io), 98 B34_L4_N (io), 99 GND (power), 100 GND (power)